# EAGLE library part MICRON-NOR_FLASH-MT35XU512ABA1G12-0SIT (library Module_ICs)
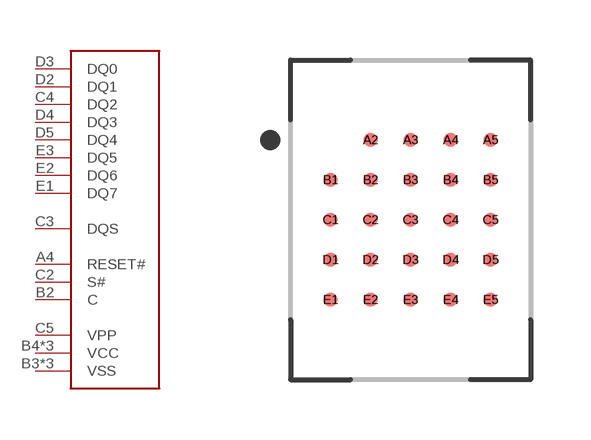
[diagram p13: symbol with the pads of MICRON-NOR_FLASH-MT35XU512ABA1G12-0SIT; footprint MICRON-NOR_FLASH-MT35XU512ABA1G12-0SIT]

Designator prefix -

## MICRON-NOR_FLASH-MT35XU512ABA1G12-0SITT-PBGA-24  [MICRON-NOR_FLASH-MT35XU512ABA1G12-0SIT]
A4  RESET#
B2  C
B3  VSS
B4  VCC
C1  VSS
C2  S#
C3  DQS
C4  DQ2
C5  VPP
D1  VCC
D2  DQ1
D3  DQ0
D4  DQ3
D5  DQ4
E1  DQ7
E2  DQ6
E3  DQ5
E4  VCC
E5  VSS

## Footprint MICRON-NOR_FLASH-MT35XU512ABA1G12-0SIT (pad centres in mm)
25-BGA, collapsing, 1.00 mm pitch, 8.00 X 6.00 X 1.00 mm body 25-pin collapsing BGA package with 1.00 mm col pitch and 1.00 mm row pitch with body size 8.00 X 6.00 X 1.00 mm
smd 0.35 x 0.35: A2 -1,2; A3 0,2; A4 1,2; A5 2,2; B1 -2,1; B2 -1,1; B3 0,1; B4 1,1; B5 2,1; C1 -2,0; C2 -1,0; C3 0,0; C4 1,0; C5 2,0; D1 -2,-1; D2 -1,-1; D3 0,-1; D4 1,-1; D5 2,-1; E1 -2,-2; E2 -1,-2; E3 0,-2; E4 1,-2; E5 2,-2